# EAGLE library part 5FD1S102M6RE (library CHIP_PRO_Dev-Kit)
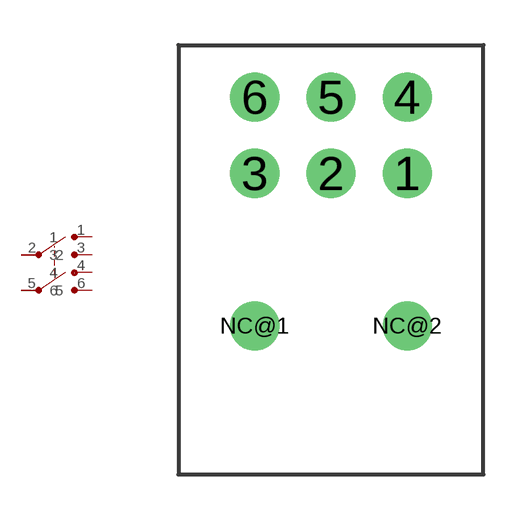
[diagram p10: symbol with the pads of 5FD1S102M6RE; footprint 5FD1S102M6RE]

Designator prefix -

## 5FD1S102M6RE  [5FD1S102M6RE]
1  1
2  2
3  3
4  4
5  5
6  6

## Footprint 5FD1S102M6RE (pad centres in mm)
drill 1.09: 1 2.54,-1.27; 2 0,-1.27; 3 -2.54,-1.27; 4 2.54,1.27; 5 0,1.27; 6 -2.54,1.27; NC@1 -2.54,-6.35; NC@2 2.54,-6.35